# Altium schematic symbol library Connector-Mezzanine.SchLib: 1 symbol
Pins are listed as number, name and electrical type; pins without a type are passive.

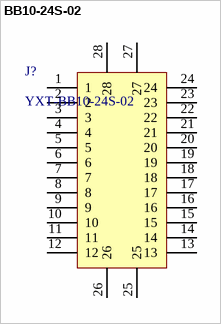
[diagram p0: symbol BB10-24S-02]

## BB10-24S-02
designator J?, comment YXT-BB10-24S-02
板对板 24P; Manufacturer_Part_Number: *; LCSC: *; Manufacturer_Name_1: *; Manufacturer_Part_Number_1: *
footprint YXT-BB10-24S-02 (间距:0.4mm PIN:24P 母 立贴)
pins: 1, 2, 3, 4, 5, 6, 7, 8, 9, 10, 11, 12, 13, 14, 15, 16, 17, 18, 19, 20, 21, 22, 23, 24, 25, 26, 27, 28